# Altium footprint library LT1677IS8PBF.PcbLib: 3 footprints
Each footprint in its own frame and in the unit in brackets; x right, y up, seen from the top. Pads: shape width x height; smd on the part's side, far side on the other; paste and mask are expansions set on the pad; w line width, h text height; cw(c..) or ccw(c..) is an arc to the next point about the centre after c.
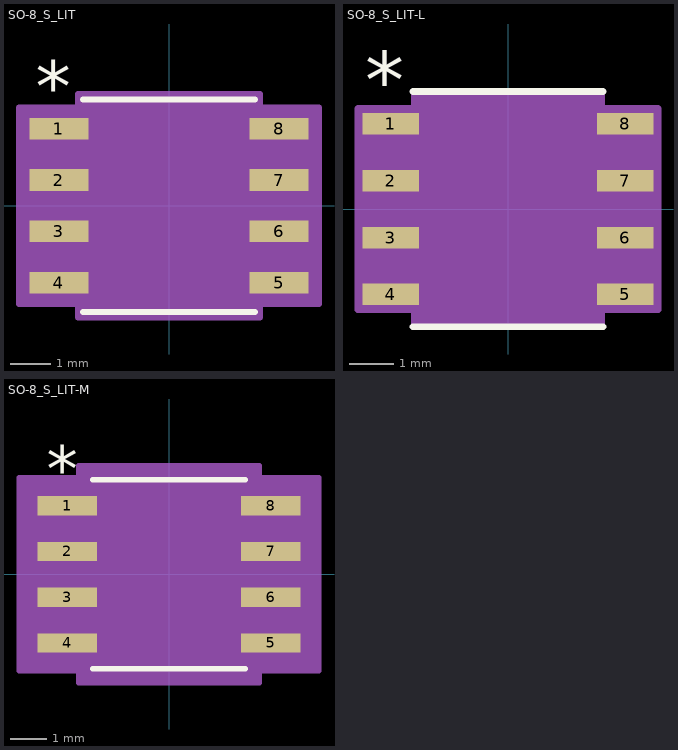
[diagram p0: the footprints below, top view; thin cyan lines are the x and y axes]

## SO-8_S_LIT [mil]
pads (8):
  rect 57.5x21 smd paste+0 mask+0: 1(-107.25,75) 2(-107.25,25) 3(-107.25,-25) 4(-107.25,-75) 5(107.25,-75) 6(107.25,-25) 7(107.25,25) 8(107.25,75)
Top Overlay:
  lines w6: -83.5,-103.5 83.5,-103.5 ; -83.5,103.5 83.5,103.5
  text ".Designator" at -137.5,-25 h50
  text "*" at -129.75,91 h50
Mechanical 13:
  lines w1: -12,98.5 ccw(c0,98.5) 12,98.5 ; -122,-84.5 -122,-65.5 -78.5,-65.5 -78.5,-84.5 -122,-84.5 ; -122,-34.5 -122,-15.5 -78.5,-15.5 -78.5,-34.5 -122,-34.5 ; -122,15.5 -122,34.5 -78.5,34.5 -78.5,15.5 -122,15.5 ; -122,65.5 -122,84.5 -78.5,84.5 -78.5,65.5 -122,65.5 ; -78.5,-98.5 78.5,-98.5 78.5,98.5 -78.5,98.5 -78.5,-98.5 ; 78.5,-84.5 78.5,-65.5 122,-65.5 122,-84.5 78.5,-84.5 ; 78.5,-34.5 78.5,-15.5 122,-15.5 122,-34.5 78.5,-34.5 ; 78.5,15.5 78.5,34.5 122,34.5 122,15.5 78.5,15.5 ; 78.5,65.5 78.5,84.5 122,84.5 122,65.5 78.5,65.5
  text "*" at -76,45.5 h50
  text ".Designator" at -137.5,-25 h50
Mechanical 15:
  region: -88.5,-95.5 -146,-95.5 -146,95.5 -88.5,95.5 -88.5,108.5 88.5,108.5 88.5,95.5 146,95.5 146,-95.5 88.5,-95.5 88.5,-108.5 -88.5,-108.5
  lines w6: -146,-95.5 -146,95.5 -88.5,95.5 -88.5,108.5 88.5,108.5 88.5,95.5 146,95.5 146,-95.5 88.5,-95.5 88.5,-108.5 -88.5,-108.5 -88.5,-95.5 -146,-95.5
3D body "SO-8_S_LIT.step": height 69.09, standoff 0, extent -122.01,-98.5 122.01,98.5

## SO-8_S_LIT-L [mil]
pads (8):
  rect 49.5x19 smd paste+0 mask+0: 1(-103.25,75) 2(-103.25,25) 3(-103.25,-25) 4(-103.25,-75) 5(103.25,-75) 6(103.25,-25) 7(103.25,25) 8(103.25,75)
Top Overlay:
  lines w6: -83.5,-103.5 83.5,-103.5 ; -83.5,103.5 83.5,103.5
  text ".Designator" at -137.5,-25 h50
  text "*" at -125.75,89 h50
Mechanical 13:
  lines w1: -12,98.5 ccw(c0,98.5) 12,98.5 ; -122,-84.5 -122,-65.5 -78.5,-65.5 -78.5,-84.5 -122,-84.5 ; -122,-34.5 -122,-15.5 -78.5,-15.5 -78.5,-34.5 -122,-34.5 ; -122,15.5 -122,34.5 -78.5,34.5 -78.5,15.5 -122,15.5 ; -122,65.5 -122,84.5 -78.5,84.5 -78.5,65.5 -122,65.5 ; -78.5,-98.5 78.5,-98.5 78.5,98.5 -78.5,98.5 -78.5,-98.5 ; 78.5,-84.5 78.5,-65.5 122,-65.5 122,-84.5 78.5,-84.5 ; 78.5,-34.5 78.5,-15.5 122,-15.5 122,-34.5 78.5,-34.5 ; 78.5,15.5 78.5,34.5 122,34.5 122,15.5 78.5,15.5 ; 78.5,65.5 78.5,84.5 122,84.5 122,65.5 78.5,65.5
  text "*" at -76,45.5 h50
  text ".Designator" at -137.5,-25 h50
Mechanical 15:
  region: -82.5,-88.5 -132,-88.5 -132,88.5 -82.5,88.5 -82.5,102.5 82.5,102.5 82.5,88.5 132,88.5 132,-88.5 82.5,-88.5 82.5,-102.5 -82.5,-102.5
  lines w6: -132,-88.5 -132,88.5 -82.5,88.5 -82.5,102.5 82.5,102.5 82.5,88.5 132,88.5 132,-88.5 82.5,-88.5 82.5,-102.5 -82.5,-102.5 -82.5,-88.5 -132,-88.5
3D body "SO-8_S_LIT.step": height 69.09, standoff 0, extent -122.01,-98.5 122.01,98.5

## SO-8_S_LIT-M [mil]
pads (8):
  rect 65.5x21 smd paste+0 mask+0: 1(-111.25,75) 2(-111.25,25) 3(-111.25,-25) 4(-111.25,-75) 5(111.25,-75) 6(111.25,-25) 7(111.25,25) 8(111.25,75)
Top Overlay:
  lines w6: -83.5,-103.5 83.5,-103.5 ; -83.5,103.5 83.5,103.5
  text ".Designator" at -137.5,-25 h50
  text "*" at -133.75,91 h50
Mechanical 13:
  lines w1: -12,98.5 ccw(c0,98.5) 12,98.5 ; -122,-84.5 -122,-65.5 -78.5,-65.5 -78.5,-84.5 -122,-84.5 ; -122,-34.5 -122,-15.5 -78.5,-15.5 -78.5,-34.5 -122,-34.5 ; -122,15.5 -122,34.5 -78.5,34.5 -78.5,15.5 -122,15.5 ; -122,65.5 -122,84.5 -78.5,84.5 -78.5,65.5 -122,65.5 ; -78.5,-98.5 78.5,-98.5 78.5,98.5 -78.5,98.5 -78.5,-98.5 ; 78.5,-84.5 78.5,-65.5 122,-65.5 122,-84.5 78.5,-84.5 ; 78.5,-34.5 78.5,-15.5 122,-15.5 122,-34.5 78.5,-34.5 ; 78.5,15.5 78.5,34.5 122,34.5 122,15.5 78.5,15.5 ; 78.5,65.5 78.5,84.5 122,84.5 122,65.5 78.5,65.5
  text "*" at -76,45.5 h50
  text ".Designator" at -137.5,-25 h50
Mechanical 15:
  region: -98.5,-105.5 -164,-105.5 -164,105.5 -98.5,105.5 -98.5,118.5 98.5,118.5 98.5,105.5 164,105.5 164,-105.5 98.5,-105.5 98.5,-118.5 -98.5,-118.5
  lines w6: -164,-105.5 -164,105.5 -98.5,105.5 -98.5,118.5 98.5,118.5 98.5,105.5 164,105.5 164,-105.5 98.5,-105.5 98.5,-118.5 -98.5,-118.5 -98.5,-105.5 -164,-105.5
3D body "SO-8_S_LIT.step": height 69.09, standoff 0, extent -122.01,-98.5 122.01,98.5